# Altium footprint library CoreBoard.PcbLib: 22 footprints (part 2 of 2)
Each footprint in its own frame and in the unit in brackets; x right, y up, seen from the top. Pads: shape width x height; smd on the part's side, far side on the other; paste and mask are expansions set on the pad; w line width, h text height; cw(c..) or ccw(c..) is an arc to the next point about the centre after c.
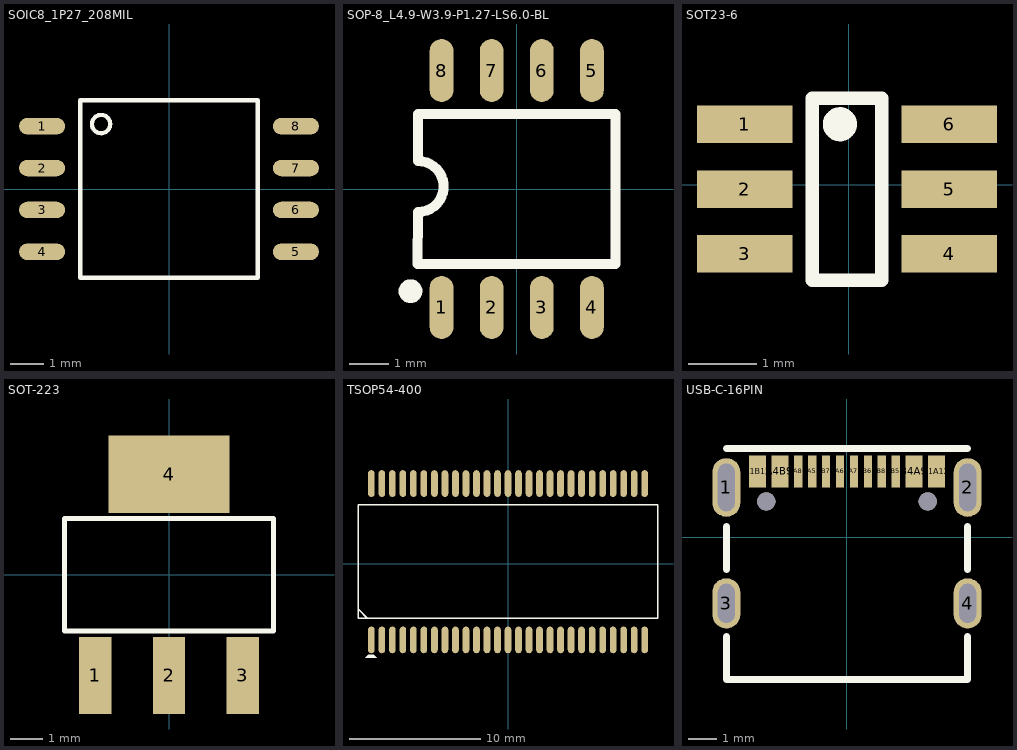
[diagram p1: the footprints below, top view; thin cyan lines are the x and y axes]

## SOIC8_1P27_208MIL [mil] "SOIC8_1P27_208MIL"
pads (8):
  oval 55.12x19.68 smd: 1(-151.57,75) 2(-151.57,25) 3(-151.57,-25) 4(-151.57,-75) 5(151.57,-75) 6(151.57,-25) 7(151.57,25) 8(151.57,75)
Top Overlay:
  circle w4.92: c-81.1,77.56 r10.94
  lines w5: -105.91,-105.91 105.91,-105.91 105.91,105.91 -105.91,105.91 -105.91,-105.91

## SOP-8_L4.9-W3.9-P1.27-LS6.0-BL [mm]
pads (8):
  oval 0.6x1.598 smd: 1(-1.905,-3) 2(-0.635,-3) 3(0.635,-3) 4(1.905,-3) 5(1.905,3) 6(0.635,3) 7(-0.635,3) 8(-1.905,3)
Top Overlay:
  lines w0.254: -2.515,-1.905 -2.5,-0.584 ccw(c-2.5,0.064) -2.5,0.711 ; -2.5,-1.9 2.5,-1.9 2.5,1.9 -2.5,1.9 -2.5,0.711
  lines w0.3: -2.692,-2.438 ccw(c-2.691,-2.588) -2.69,-2.438

## SOT23-6 [mm]
height 2.4
pads (6):
  rect 1.4x0.55 smd: 1(-1.524,0.889) 2(-1.524,-0.061) 3(-1.524,-1.011) 4(1.476,-1.011) 5(1.476,-0.061) 6(1.476,0.889)
Top Overlay:
  circle w0.25: c-0.127,0.889 r0.125
  lines w0.2: -0.532,-1.397 -0.532,1.27 0.484,1.27 0.484,-1.397 -0.532,-1.397
3D body: height 1.15, standoff -0.03, extent -1.403,-1.552 1.403,1.448

## SOT-223 [mm] "SOT-223"
pads (4):
  rect 1x2.4 smd: 1(-2.29,-3.125) 2(0,-3.125) 3(2.29,-3.125)
  rect 3.75x2.4 smd: 4(0,3.125)
Top Overlay:
  lines w0.15: -3.25,-1.75 3.25,-1.75 3.25,1.75 -3.25,1.75 -3.25,-1.75

## TSOP54-400 [mil] "TSOP54-400"
pads (54):
  oval 20x80 smd: 1(-409.45,-228.74) 2(-377.95,-228.74) 3(-346.46,-228.74) 4(-314.96,-228.74) 5(-283.47,-228.74) 6(-251.97,-228.74) 7(-220.47,-228.74) 8(-188.98,-228.74) 9(-157.48,-228.74) 10(-125.99,-228.74) 11(-94.49,-228.74) 12(-62.99,-228.74) 13(-31.5,-228.74) 14(0,-228.74) 15(31.49,-228.74) 16(62.99,-228.74) 17(94.49,-228.74) 18(125.98,-228.74) 19(157.48,-228.74) 20(188.98,-228.74) 21(220.47,-228.74) 22(251.97,-228.74) 23(283.46,-228.74) 24(314.96,-228.74) 25(346.46,-228.74) 26(377.95,-228.74) 27(409.45,-228.74) 28(409.45,239.76) 29(377.95,239.76) 30(346.46,239.76) 31(314.96,239.76) 32(283.46,239.76) 33(251.97,239.76) 34(220.47,239.76) 35(188.98,239.76) 36(157.48,239.76) 37(125.98,239.76) 38(94.49,239.76) 39(62.99,239.76) 40(31.49,239.76) 41(0,239.76) 42(-31.5,239.76) 43(-62.99,239.76) 44(-94.49,239.76) 45(-125.99,239.76) 46(-157.48,239.76) 47(-188.98,239.76) 48(-220.47,239.76) 49(-251.97,239.76) 50(-283.47,239.76) 51(-314.96,239.76) 52(-346.46,239.76) 53(-377.95,239.76) 54(-409.45,239.76)
Top Overlay:
  region: -419.29,-273.23 -401.58,-273.23 -392.52,-282.28 -428.35,-282.28
  lines w4.92: -448.03,-137.01 -421.65,-163.39 ; -448.82,-163.78 -448.82,175.98 448.82,175.98 448.82,-163.78 -448.82,-163.78

## USB-C-16PIN [mm]
height 2.4
pads (18):
  oval 1x2.099 hole 0.6 slot 1.7 at 90 deg: 1(-4.32,1.787) 2(4.32,1.787)
  oval 1x1.799 hole 0.6 slot 1.4 at 90 deg: 3(-4.32,-2.362) 4(4.32,-2.362)
  rect 0.6x1.15 smd: A1B12(-3.2,2.362) A4B9(-2.4,2.362) B1A12(3.2,2.362) B4A9(2.4,2.362)
  rect 0.3x1.15 smd: A5(-1.25,2.362) A6(-0.25,2.362) A7(0.25,2.362) A8(-1.75,2.362) B5(1.75,2.362) B6(0.75,2.362) B7(-0.75,2.362) B8(1.25,2.362)
  round 0.65 hole 0.65 unplated: ""(-2.89,1.288) ""(2.89,1.288)
Top Overlay:
  lines w0.254: -4.318,-3.556 -4.318,-5.08 4.318,-5.08 4.318,-3.556 ; -4.318,-1.143 -4.318,0.381 ; -4.318,3.175 4.318,3.175 ; 4.318,-1.143 4.318,0.381
3D body: height 3.21, standoff -0.99, extent -4.47,-4.953 4.47,2.947